# EAGLE library part 2X4_HEADER (library ForceTronics)
2 x 4 Female Pin Header, Spacing is .1"
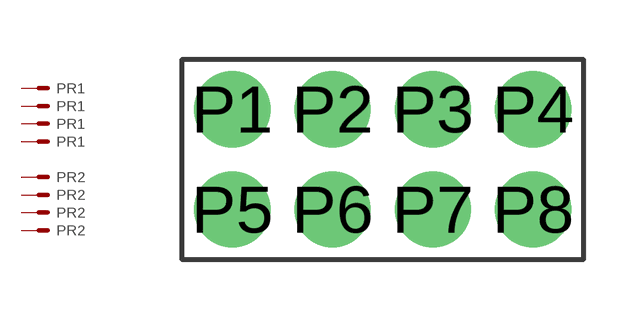
[diagram p4: symbol with the pads of 2X4_HEADER; footprint 2X4_HEADER]

Designator prefix P; gates R1=4PINHEADER R2=4PINHEADER

## 2X4_HEADER  [2X4_HEADER]
P1  R1:S  pas
P2  R1:S1  pas
P3  R1:S2  pas
P4  R1:S3  pas
P5  R2:S  pas
P6  R2:S1  pas
P7  R2:S2  pas
P8  R2:S3  pas

## Footprint 2X4_HEADER (pad centres in mm)
drill 1 pad 1.93: P1 1.27,3.81; P2 3.81,3.81; P3 6.35,3.81; P4 8.89,3.81; P5 1.27,1.27; P6 3.81,1.27; P7 6.35,1.27; P8 8.89,1.27